# EAGLE library part PIC32MX250F128B-I_SP (library 3cent_parts)
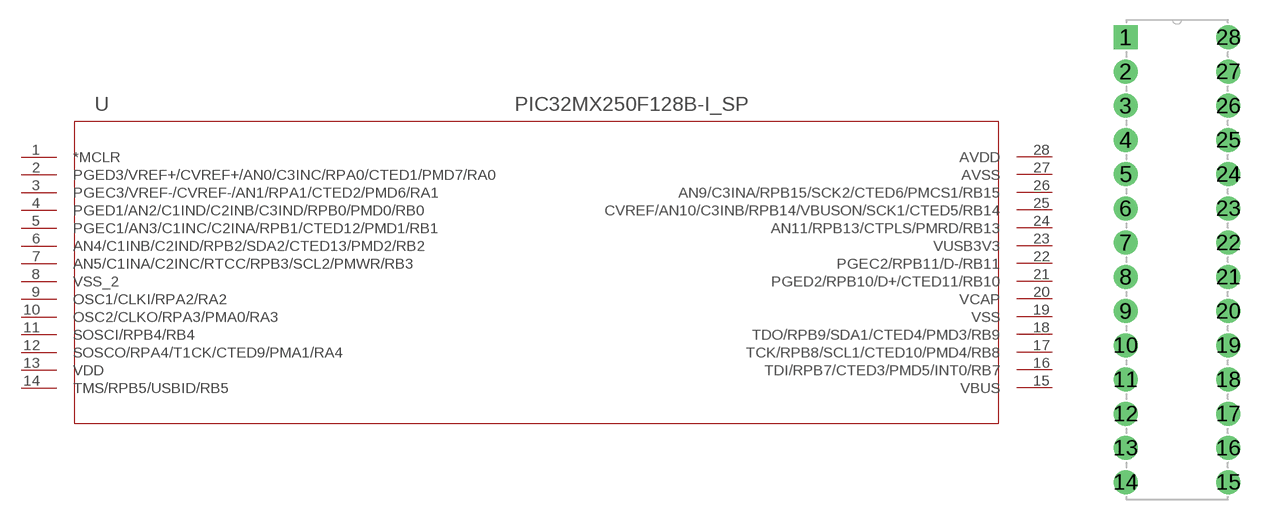
[diagram p1: symbol with the pads of SPDIP28_300MC; footprint SPDIP28_300MC]

Designator prefix U

## PIC32MX250F128B-I_SP  [SPDIP28_300MC]
1  *MCLR  in
2  PGED3/VREF+/CVREF+/AN0/C3INC/RPA0/CTED1/PMD7/RA0
3  PGEC3/VREF-/CVREF-/AN1/RPA1/CTED2/PMD6/RA1
4  PGED1/AN2/C1IND/C2INB/C3IND/RPB0/PMD0/RB0
5  PGEC1/AN3/C1INC/C2INA/RPB1/CTED12/PMD1/RB1
6  AN4/C1INB/C2IND/RPB2/SDA2/CTED13/PMD2/RB2
7  AN5/C1INA/C2INC/RTCC/RPB3/SCL2/PMWR/RB3
8  VSS_2  pwr
9  OSC1/CLKI/RPA2/RA2
10  OSC2/CLKO/RPA3/PMA0/RA3
11  SOSCI/RPB4/RB4
12  SOSCO/RPA4/T1CK/CTED9/PMA1/RA4
13  VDD  pwr
14  TMS/RPB5/USBID/RB5
15  VBUS  pwr
16  TDI/RPB7/CTED3/PMD5/INT0/RB7
17  TCK/RPB8/SCL1/CTED10/PMD4/RB8
18  TDO/RPB9/SDA1/CTED4/PMD3/RB9
19  VSS  pwr
20  VCAP  pwr
21  PGED2/RPB10/D+/CTED11/RB10
22  PGEC2/RPB11/D-/RB11
23  VUSB3V3  pwr
24  AN11/RPB13/CTPLS/PMRD/RB13
25  CVREF/AN10/C3INB/RPB14/VBUSON/SCK1/CTED5/RB14
26  AN9/C3INA/RPB15/SCK2/CTED6/PMCS1/RB15
27  AVSS  pwr
28  AVDD  pwr

## Footprint SPDIP28_300MC (pad centres in mm)
drill 0.991 pad 1.778 square: 1 -7.62,33.02
drill 0.991 pad 1.778: 2 -7.62,30.48; 3 -7.62,27.94; 4 -7.62,25.4; 5 -7.62,22.86; 6 -7.62,20.32; 7 -7.62,17.78; 8 -7.62,15.24; 9 -7.62,12.7; 10 -7.62,10.16; 11 -7.62,7.62; 12 -7.62,5.08; 13 -7.62,2.54; 14 -7.62,0; 15 0,0; 16 0,2.54; 17 0,5.08; 18 0,7.62; 19 0,10.16; 20 0,12.7; 21 0,15.24; 22 0,17.78; 23 0,20.32; 24 0,22.86; 25 0,25.4; 26 0,27.94; 27 0,30.48; 28 0,33.02